# Altium footprint library 0915LP15B026E.PcbLib: 1 footprints
Each footprint in its own frame and in the unit in brackets; x right, y up, seen from the top. Pads: shape width x height; smd on the part's side, far side on the other; paste and mask are expansions set on the pad; w line width, h text height; cw(c..) or ccw(c..) is an arc to the next point about the centre after c.
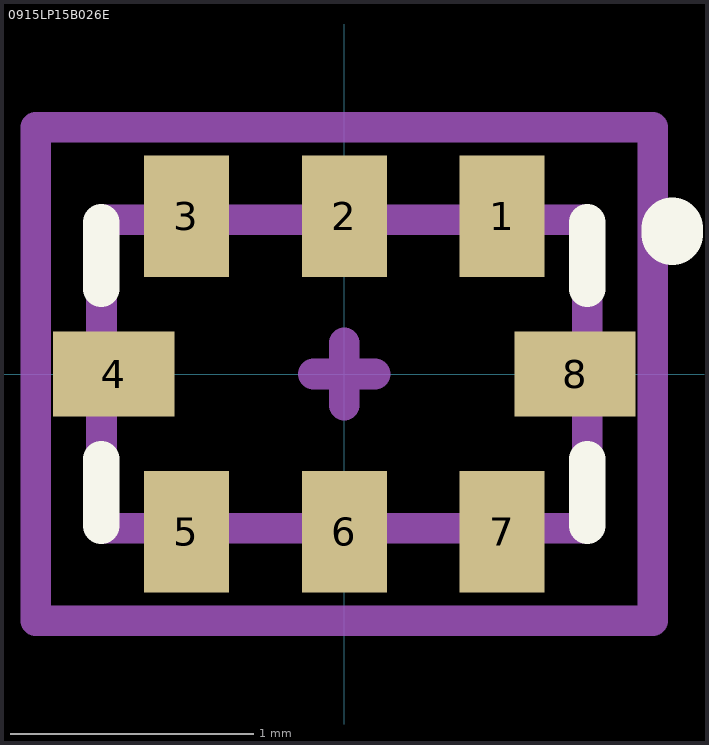
[diagram p0: the footprint, top view; thin cyan lines are the x and y axes]

## 0915LP15B026E [mm]
pads (8):
  rect 0.35x0.5 smd: 1(0.65,0.65) 2(0,0.65) 3(-0.65,0.65) 5(-0.65,-0.65) 6(0,-0.65) 7(0.65,-0.65)
  rect 0.5x0.35 smd: 4(-0.95,0) 8(0.95,0)
Top Overlay:
  lines w0.15: -1,-0.625 -1,-0.35 ; -1,0.35 -1,0.625 ; 1,-0.625 1,-0.35 ; 1,0.35 1,0.625
  lines w0.254: 1.35,0.575 1.35,0.6
Mechanical 13:
  lines w0.127: -1,-0.635 -1,0.635 1,0.635 1,-0.635 -1,-0.635
Mechanical 15:
  lines w0.127: -0.127,0 0.127,0 ; 0,-0.127 0,0.127 ; -1.27,-1.016 -1.27,1.016 1.27,1.016 1.27,-1.016 -1.27,-1.016
Mechanical 17:
  text "'.Designator'" at -1.27,-0.381 h0.51
Mechanical 19:
  text "'.Comment'" at -1.27,-0.381 h0.51
3D body "User Library-1600BL15B100E.step": height 0.91, standoff 0.05, extent -1,-0.635 1,0.635